# EAGLE library part HEADER-2X5 (library everykey)
10 pin header, 2 rows with 5 pins each
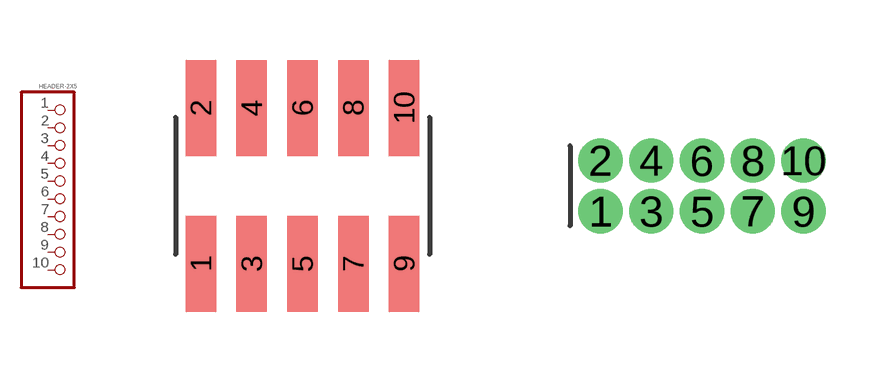
[diagram p16: symbol with the pads of 2X05_SMT; footprints 2X05_SMT, 2X05_ROUND_127]

Designator prefix -

## HEADER-2X5SMD-1.27MM  [2X05_SMT]
1  1  pas
2  2  pas
3  3  pas
4  4  pas
5  5  pas
6  6  pas
7  7  pas
8  8  pas
9  9  pas
10  10  pas

## HEADER-2X5ROUND  [2X05_ROUND_127]
Pads as for 2X05_SMT

## Footprint 2X05_SMT (pad centres in mm)
1.27mm pitch 2x5 header, SMD
smd 0.762 x 2.4: 1 -2.54,-1.95; 2 -2.54,1.95; 3 -1.27,-1.95; 4 -1.27,1.95; 5 0,-1.95; 6 0,1.95; 7 1.27,-1.95; 8 1.27,1.95; 9 2.54,-1.95; 10 2.54,1.95

## Footprint 2X05_ROUND_127 (pad centres in mm)
Through hole header 2x05, 1.27mm pitch
drill 0.6: 1 -2.54,-0.635; 2 -2.54,0.635; 3 -1.27,-0.635; 4 -1.27,0.635; 5 0,-0.635; 6 0,0.635; 7 1.27,-0.635; 8 1.27,0.635; 9 2.54,-0.635; 10 2.54,0.635